# Altium footprint library MOLEX SDA-70553-4PIN.PCBLIB: 1 footprints
Each footprint in its own frame and in the unit in brackets; x right, y up, seen from the top. Pads: shape width x height; smd on the part's side, far side on the other; paste and mask are expansions set on the pad; w line width, h text height; cw(c..) or ccw(c..) is an arc to the next point about the centre after c.
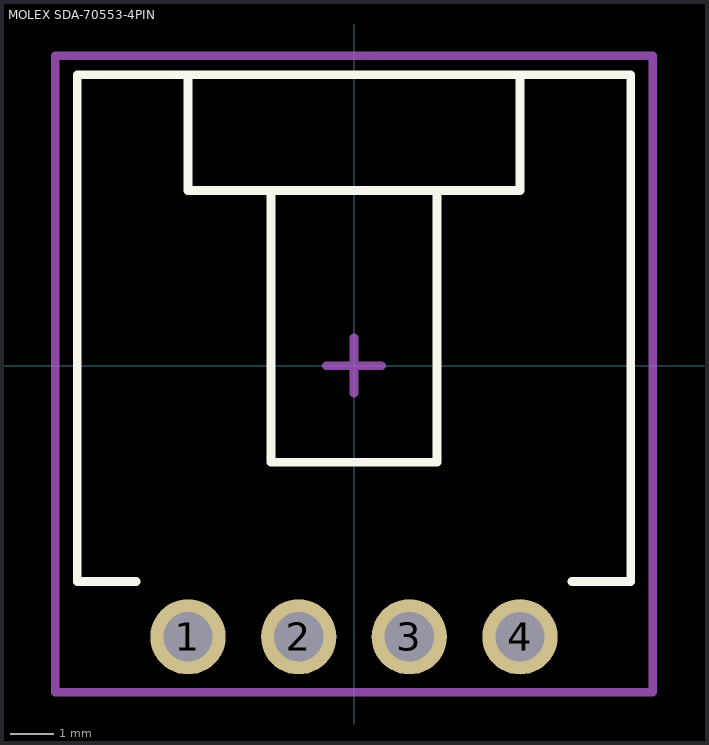
[diagram p0: the footprint, top view; thin cyan lines are the x and y axes]

## MOLEX SDA-70553-4PIN [mm] "SL Right Angle Header W/LAtch & Trip-Pegs 2.54mm Centres"
height 6.99
pads (4):
  round 1.73 hole 1.13: 1(-3.81,-6.223) 2(-1.27,-6.223) 3(1.27,-6.223) 4(3.81,-6.223)
Top Overlay:
  lines w0.2: -5,-4.953 -6.35,-4.953 -6.35,6.677 6.35,6.677 6.35,-4.953 5,-4.953 ; -3.81,6.677 -3.81,4.019 3.81,4.019 3.81,6.677 ; -1.905,4.019 -1.905,-2.219 1.905,-2.219 1.905,4.019
Mechanical 15:
  lines w0.2: -0.635,0 0.635,0 ; 0,-0.635 0,0.635 ; -6.858,-7.493 6.858,-7.493 6.858,7.112 -6.858,7.112 -6.858,-7.493
3D body "705530003.STEP": height 6.98, standoff -3.3, extent -6.35,-6.923 6.35,6.666